# Altium schematic symbol library EL-sense_MOSFET.SchLib: 3 symbols
Pins are listed as number, name and electrical type; pins without a type are passive.

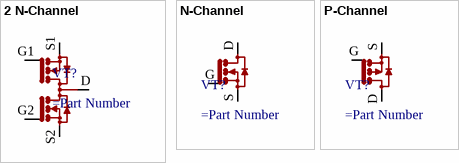
[diagram p0: symbols 2 N-Channel to P-Channel]

## 2 N-Channel
designator VT?
pins: D, G1, G2, S1, S2

## N-Channel
designator VT?
pins: D, G, S

## P-Channel
designator VT?
pins: D, G, S